# EAGLE library part ADA-GPS (library GPS-power)
Adafruit Ultimate GPS Breakout - 66 channel w/10 Hz updates - Version 3 https://www.adafruit.com/product/746
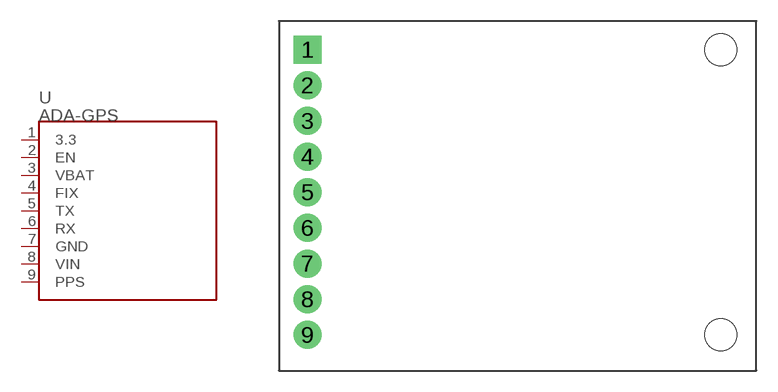
[diagram p3: symbol with the pads of ADA-GPS; footprint ADA-GPS]

Designator prefix -

## ADA-GPS  [ADA-GPS]
1  3.3
2  EN
3  VBAT
4  FIX
5  TX
6  RX
7  GND
8  VIN
9  PPS

## Footprint ADA-GPS (pad centres in mm)
Adafruit Ultimate GPS Breakout - 66 channel w/10 Hz updates - Version 3 https://www.adafruit.com/product/746
drill 1.02 pad 2 square: 1 0,0
drill 1.02 pad 2: 2 0,-2.54; 3 0,-5.08; 4 0,-7.62; 5 0,-10.16; 6 0,-12.7; 7 0,-15.24; 8 0,-17.78; 9 0,-20.32
hole 2.286 at 29.464,0
hole 2.286 at 29.464,-20.32